# Altium integrated library Lianxin_Library.IntLib: 1 symbol
Pins are listed as number, name and electrical type; pins without a type are passive.

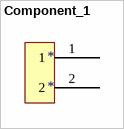
[diagram p0: symbol Component_1]

## Component_1
designator *
footprint TSOP65P180X145-2N (TSOP, 2-Leads, Body 1.00x0.15mm, Pitch 0.65mm, IPC Medium Density)
pins: 1, 2